# EAGLE library part RJ45 (library work)
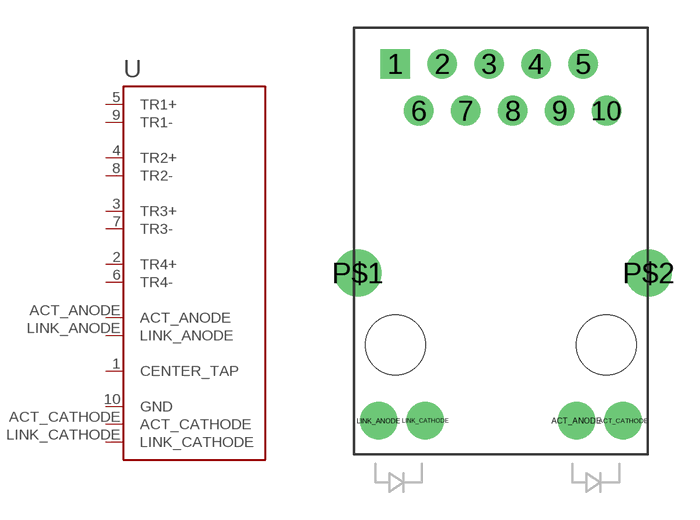
[diagram p38: symbol with the pads of RJ45; footprint RJ45]

Designator prefix -

## RJ45  [RJ45]
1  CENTER_TAP
2  TR4+
3  TR3+
4  TR2+
5  TR1+
6  TR4-
7  TR3-
8  TR2-
9  TR1-
10  GND
ACT_ANODE  ACT_ANODE
ACT_CATHODE  ACT_CATHODE
LINK_ANODE  LINK_ANODE
LINK_CATHODE  LINK_CATHODE

## Footprint RJ45 (pad centres in mm)
drill 0.89 pad 1.6 square: 1 -5.715,9.6
drill 0.89 pad 1.6: 2 -3.175,9.6; 3 -0.635,9.6; 4 1.905,9.6; 5 4.445,9.6; 6 -4.445,7.06; 7 -1.905,7.06; 8 0.635,7.06; 9 3.175,7.06; 10 5.715,7.06
drill 1.016 pad 2.032: ACT_ANODE 4.089,-9.75; ACT_CATHODE 6.629,-9.75; LINK_ANODE -6.629,-9.75; LINK_CATHODE -4.089,-9.75
drill 1.57 pad 2.54: P$1 -7.747,-1.75; P$2 8.001,-1.75
hole 3.251 at -5.715,-5.64
hole 3.251 at 5.715,-5.64